# Altium footprint library PCB_s01.PcbLib: 21 footprints (part 1 of 2)
Each footprint in its own frame and in the unit in brackets; x right, y up, seen from the top. Pads: shape width x height; smd on the part's side, far side on the other; paste and mask are expansions set on the pad; w line width, h text height; cw(c..) or ccw(c..) is an arc to the next point about the centre after c.
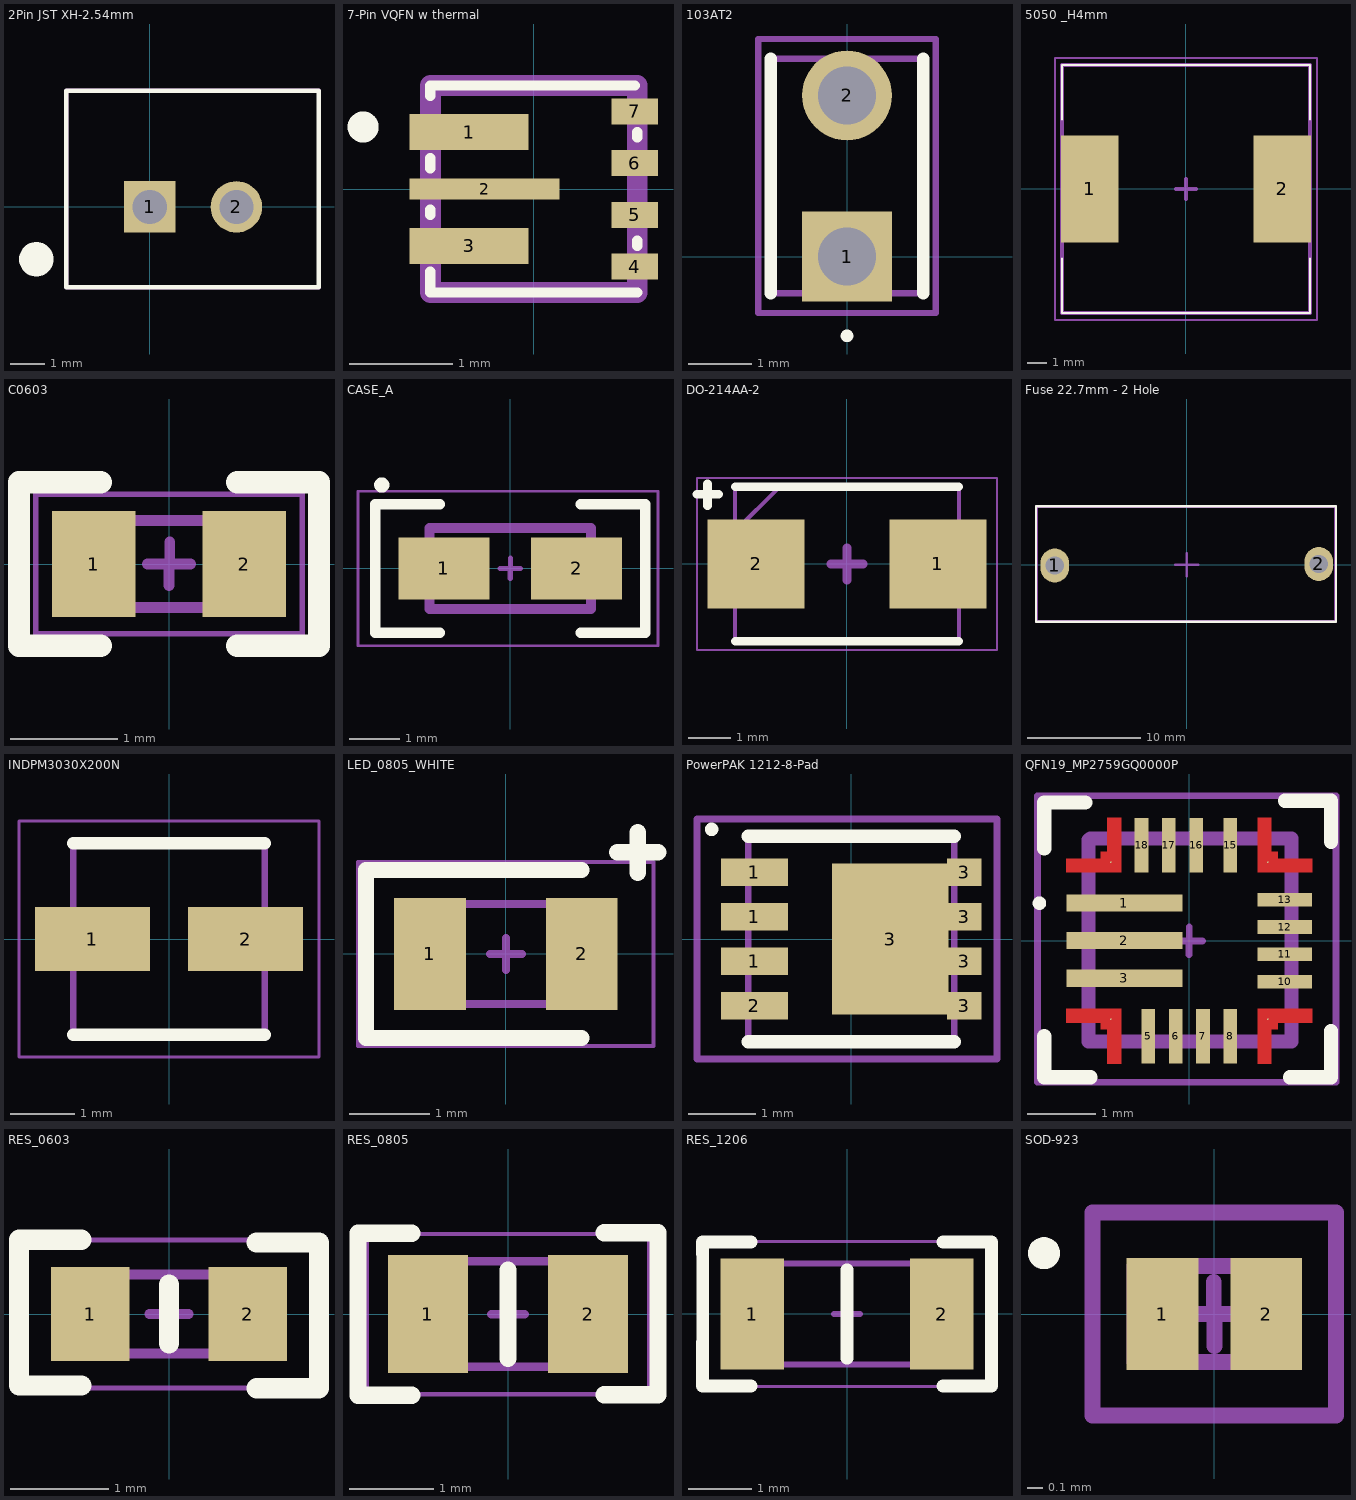
[diagram p0: the footprints below, top view; thin cyan lines are the x and y axes]

## 2Pin JST XH-2.54mm [mm]
pads (3):
  rect 1.508x1.508 hole 1: 1(0,0)
  round 1.508 hole 1: 2(2.54,0)
  round 1.016 on Top Overlay: ""(-3.322,-1.534)
Top Overlay:
  lines w0.127: -2.45,-2.35 4.95,-2.35 4.95,3.4 -2.45,3.4 -2.45,-2.35
Bottom 3D Body:
  lines w0.127: -2.441,-2.351 4.959,-2.351 4.959,3.399 -2.441,3.399 -2.441,-2.351
  text "'.Designator'" at -2.187,-1.589 h1.52
3D body "User Library-B2B-XH-A.STEP": height 7.01, standoff -3.39, extent -2.481,-2.395 4.919,3.355

## 7-Pin VQFN w thermal [mm]
pads (7):
  rect 1.15x0.35 smd: 1(-0.625,0.55) 3(-0.625,-0.55)
  rect 1.45x0.2 smd: 2(-0.475,0)
  rect 0.45x0.25 smd: 4(0.975,-0.75) 5(0.975,-0.25) 6(0.975,0.25) 7(0.975,0.75)
Top Overlay:
  lines w0.1: -1,-1 1,-1 -1,-1 ; -1,-1 -1,-0.8 -1,-1 ; -1,1 -1,0.9 -1,1 ; -1,1 0.975,1 -1,1 ; -1,-0.25 -1,-0.2 -1,-0.25 ; -1,0.2 -1,0.3 -1,0.2 ; 1,-0.55 1,-0.5 1,-0.55 ; 1,0.5 1,0.55 1,0.5
  lines w0.2: -1.7,0.6 ccw(c-1.65,0.6) -1.6,0.6 ; -1.7,0.6 cw(c-1.65,0.6) -1.6,0.6 ; -1.7,0.6 ccw(c-1.65,0.6) -1.6,0.6
Top Courtyard:
  lines w0.2: -1,-1 -1,1 1,1 1,-1 -1,-1
3D body "User Library-RWU0007A.STEP": height 1.01, standoff 0, extent -1.01,-1 1.01,1

## 103AT2 [mm]
pads (2):
  rect 1.416x1.416 hole 0.91: 1(0,0)
  round 1.416 hole 0.91: 2(0,2.54)
Top Overlay:
  lines w0.1: 0,-1.3 ccw(c0,-1.25) 0,-1.2 ccw(c0,-1.25) 0,-1.3
  lines w0.2: -1.2,-0.58 -1.2,3.12 ; 1.2,-0.58 1.2,3.12
Mechanical 13:
  lines w0.1: -1.2,-0.58 -1.2,3.12 1.2,3.12 1.2,-0.58 -1.2,-0.58
  text "'.Designator'" at -1,-0.047 h1
Top Courtyard:
  lines w0.1: -1.397,-0.889 -1.397,3.429 1.397,3.429 1.397,-0.889 -1.397,-0.889
3D body "103AT-2.stp": height 6.44, standoff -10.56, extent -1.2,-0.58 1.2,3.12

## 5050 _H4mm [mm]
pads (2):
  rect 2.9x5.4 smd: 1(-4.85,0) 2(4.85,0)
Top Overlay:
  lines w0.1: -6.25,-3.5 -6.25,-6.25 6.25,-6.25 6.25,-3.5 ; -6.25,3.5 -6.25,6.25 6.25,6.25 6.25,3.5
Mechanical 13:
  lines w0.2: -6.25,-6.25 6.25,-6.25 6.25,6.25 -6.25,6.25 -6.25,-6.25
  text ".Designator" at -6.05,-5.717 h1
Top Courtyard:
  lines w0.1: -6.604,-6.604 6.604,-6.604 6.604,6.604 -6.604,6.604 -6.604,-6.604
  lines w0.2: -0.5,-0.001 0,-0.001 ; -0.005,0 0.495,0 ; 0,-0.501 0,-0.001 ; 0,0.499 0,-0.001
3D body "SRR1240-100M.stp": height 4, standoff 0, extent -6.25,-6.25 6.25,6.25

## C0603 [mm]
pads (2):
  rect 0.78x0.99 smd: 1(-0.7,0) 2(0.7,0)
Top Overlay:
  lines w0.207: -0.635,-0.762 -1.397,-0.762 -1.397,0.762 -0.635,0.762 ; 0.635,-0.762 1.397,-0.762 1.397,0.762 0.635,0.762
Mechanical 13:
  lines w0.1: -0.8,-0.405 -0.8,0.405 0.8,0.405 0.8,-0.405 -0.8,-0.405
  text ".Designator" at -0.7,-0.138 h0.5
Top Courtyard:
  lines w0.05: -1.24,-0.65 -1.24,0.65 1.24,0.65 1.24,-0.65 -1.24,-0.65
  lines w0.1: -0.2,0 0,0 ; 0,-0.2 0,0 ; 0.006,0.006 0.006,0.206 ; 0.2,0 0,0
3D body "0603YC225MAT2A.stp": height 0.76, standoff 0, extent -0.76,-0.508 0.76,0.402

## CASE_A [mm]
pads (2):
  rect 1.8x1.23 smd: 1(-1.31,0) 2(1.31,0)
Top Overlay:
  circle w0.2: c-2.54,1.651 r0.05
  lines w0.207: -1.397,-1.27 -2.667,-1.27 -2.667,1.27 -1.397,1.27 ; 1.397,-1.27 2.667,-1.27 2.667,1.27 1.397,1.27
Mechanical 13:
  lines w0.2: -1.6,-0.8 -1.6,0.8 1.6,0.8 1.6,-0.8 -1.6,-0.8
  text ".Designator" at -1.4,-0.267 h1
Top Courtyard:
  lines w0.05: -3.01,-1.524 -3.01,1.524 2.921,1.524 2.921,-1.524 -3.01,-1.524
  lines w0.1: -0.2,0 0,0 ; 0,-0.2 0,0 ; 0.006,0.006 0.006,0.206 ; 0.2,0 0,0
3D body "T495A225K010ATE1K8.stp": height 1.81, standoff 0, extent -1.7,-0.889 1.7,0.911

## DO-214AA-2 [mm]
pads (2):
  rect 2.3x2.1 smd: 1(2.15,0) 2(-2.15,0)
Top Overlay:
  lines w0.2: -2.65,-1.825 2.65,-1.825 ; -2.65,1.825 2.65,1.825
  lines w0.207: -3.548,1.651 -3.04,1.651 ; -3.302,1.387 -3.302,1.895
Mechanical 13:
  lines w0.1: -2.65,0.775 -1.6,1.825 ; -2.65,-1.825 2.65,-1.825 2.65,1.825 -2.65,1.825 -2.65,-1.825
  text ".Designator" at -2.34,-1.245 h1
Top Courtyard:
  lines w0.05: -3.55,-2.032 3.55,-2.032 3.55,2.032 -3.55,2.032 -3.55,-2.032
  lines w0.207: -0.381,0 0.381,0 ; 0,-0.381 0,0.381
3D body "CDBB240-HF.stp": height 3.2, standoff 0, extent -2.65,-1.825 2.65,1.825

## Fuse 22.7mm - 2 Hole [mm]
pads (2):
  oval 2.5x3 hole 1.6: 1(-11.62,-0.064) 2(11.62,0.064)
Top Overlay:
  lines w0.2: -13.271,-5.016 -13.271,5.143 13.144,5.143 13.144,-5.016 -13.271,-5.016
Mechanical 13:
  lines w0.2: -13.271,-5.016 -13.271,5.143 13.144,5.143 13.144,-5.016 -13.271,-5.016
  text "'.Designator'" at -13.018,-4.255 h1.52
Top Courtyard:
  lines w0.207: -1,0 0,0 ; 0,-1 0,0 ; 0,1 0,0 ; 1,0 0,0 ; -13.208,-4.953 13.081,-4.953 13.081,5.08 -13.208,5.08 -13.208,-4.953
3D body "696103201002.stp": height 11.5, standoff -4.1, extent -12.113,-4.763 11.986,4.837

## INDPM3030X200N [mm]
pads (2):
  rect 1.8x1 smd: 1(-1.2,0) 2(1.2,0)
Top Overlay:
  lines w0.2: -1.5,-1.5 1.5,-1.5 ; -1.5,1.5 1.5,1.5
Top Courtyard:
  lines w0.05: -2.35,-1.85 2.35,-1.85 2.35,1.85 -2.35,1.85 -2.35,-1.85
  lines w0.1: -1.5,-1.5 1.5,-1.5 1.5,1.5 -1.5,1.5 -1.5,-1.5
3D body "User Library-IHLP1212-1.step": height 2.01, standoff -0.03, extent -1.829,-1.473 1.829,1.524

## LED_0805_WHITE [mm]
pads (2):
  rect 0.9x1.4 smd: 1(-0.95,0) 2(0.95,0)
Top Overlay:
  lines w0.2: 0.95,-1.05 -1.75,-1.05 -1.75,1.05 0.95,1.05
  lines w0.207: 1.397,1.27 1.905,1.27 ; 1.651,1.016 1.651,1.524
Mechanical 13:
  lines w0.1: -1,0.208 -0.583,0.625 ; -1,-0.625 1,-0.625 1,0.625 -1,0.625 -1,-0.625
  text ".Designator" at -0.85,-0.242 h0.7
Top Courtyard:
  lines w0.05: -1.85,-1.15 1.85,-1.15 1.85,1.15 -1.85,1.15 -1.85,-1.15
  lines w0.1: -0.2,0 0,0 ; 0,-0.2 0,0 ; 0,0.2 0,0 ; 0.2,0 0,0
3D body "User Library-LED SMD0805.STEP": height 0.85, standoff 0.01, extent -0.998,-0.457 1.065,0.45

## PowerPAK 1212-8-Pad [mm]
pads (9):
  rect 0.99x0.405 smd: 1(-1.435,-0.33) 1(-1.435,0.33) 1(-1.435,0.99) 2(-1.435,-0.99)
  rect 1.725x2.235 smd: 3(0.577,-0.001)
  rect 0.51x0.405 smd: 3(1.675,-0.99) 3(1.675,-0.33) 3(1.675,0.33) 3(1.675,0.99)
Top Overlay:
  lines w0.1: -2.119,1.625 cw(c-2.069,1.625) -2.019,1.625 cw(c-2.069,1.625) -2.119,1.625
  lines w0.2: -1.525,-1.525 1.525,-1.525 ; -1.525,1.525 1.525,1.525
Mechanical 13:
  lines w0.1: -1.525,-1.525 -1.525,1.525 1.525,1.525 1.525,-1.525 -1.525,-1.525
Top Courtyard:
  lines w0.1: -2.286,-1.778 -2.286,1.778 2.159,1.778 2.159,-1.778 -2.286,-1.778
3D body "SISA35DN-T1-GE3.stp": height 1.27, standoff -0.02, extent -1.65,-1.65 1.65,1.65

## QFN19_MP2759GQ0000P [mm]
pads (19):
  rect 1.7x0.25 smd: 1(-0.95,0.55) 2(-0.95,0) 3(-0.95,-0.55)
  round 0.025 smd: 4(-1.15,-1.15) 9(1.15,-1.15) 14(1.15,1.15) 19(-1.15,1.15)
  rect 0.2x0.8 smd: 5(-0.6,-1.4) 6(-0.2,-1.4) 7(0.2,-1.4) 8(0.6,-1.4) 15(0.6,1.4) 16(0.1,1.4) 17(-0.3,1.4) 18(-0.7,1.4)
  rect 0.8x0.2 smd: 10(1.4,-0.6) 11(1.4,-0.2) 12(1.4,0.2) 13(1.4,0.6)
Top Layer:
  region: 1.8,1 1.8,1.2 1.3,1.2 1.3,1.3 1.2,1.3 1.2,1.8 1,1.8 1,1
  region: -1,1.8 -1.2,1.8 -1.2,1.301 -1.2,1.3 -1.3,1.3 -1.3,1.2 -1.8,1.2 -1.8,1 -1,1
  region: -1.8,-1 -1.8,-1.2 -1.3,-1.2 -1.3,-1.3 -1.2,-1.3 -1.2,-1.8 -1,-1.8 -1,-1
  region: 1,-1.8 1.2,-1.8 1.2,-1.301 1.2,-1.3 1.3,-1.3 1.3,-1.2 1.8,-1.2 1.8,-1 1,-1
Top Overlay:
  lines w0.1: -2.246,0.55 ccw(c-2.196,0.55) -2.146,0.55 ccw(c-2.196,0.55) -2.246,0.55
  lines w0.207: -2.125,-1.4 -2.125,-2 -1.45,-2 ; -2.125,1.35 -2.125,2.025 -1.525,2.025 ; 1.4,2.05 2.075,2.05 2.075,1.45 ; 1.475,-2 2.075,-2 2.075,-1.325
Top 3D Body:
  lines w0.207: -1.475,-1.475 1.5,-1.475 1.5,1.5 -1.45,1.5 -1.475,1.475 -1.475,-1.475
Mechanical 13:
  lines w0.1: -1.5,-1.5 -1.5,1.5 1.5,1.5 1.5,-1.5 -1.5,-1.5
  text ".Designator" at -1.331,-0.95 h1
Top Courtyard:
  lines w0.1: -0.206,-0.006 -0.006,-0.006 ; -0.006,-0.206 -0.006,-0.006 ; 0,0 0,0.2 ; 0.194,-0.006 -0.006,-0.006 ; -2.225,-2.075 -2.225,2.125 2.15,2.125 2.15,-2.075 -2.225,-2.075
3D body "MP2759GQ-0000-P.stp": height 0.85, standoff -0.05, extent -1.505,-1.505 1.505,1.505

## RES_0603 [mm]
pads (2):
  rect 0.8x0.95 smd: 1(-0.8,0) 2(0.8,0)
Top Overlay:
  lines w0.2: 0,-0.3 0,0.3
  lines w0.207: -0.889,-0.727 -1.524,-0.727 -1.524,0.753 -0.889,0.753 ; 0.889,-0.753 1.524,-0.753 1.524,0.727 0.889,0.727
Mechanical 13:
  lines w0.1: -0.8,-0.4 -0.8,0.4 0.8,0.4 0.8,-0.4 -0.8,-0.4
  text ".Designator" at -0.7,-0.133 h0.5
Top Courtyard:
  lines w0.05: -1.45,-0.75 -1.45,0.75 1.45,0.75 1.45,-0.75 -1.45,-0.75
  lines w0.1: -0.2,0 0,0 ; 0,-0.2 0,0 ; 0,0.2 0,0 ; 0.2,0 0,0
3D body "RC0603BR-0710KL.stp": height 0.46, standoff 0, extent -0.8,-0.4 0.8,0.4

## RES_0805 [mm]
pads (2):
  rect 0.95x1.4 smd: 1(-0.95,0) 2(0.95,0)
Top Overlay:
  lines w0.2: 0,-0.525 0,0.525
  lines w0.207: -1.143,-0.961 -1.778,-0.961 -1.778,0.961 -1.143,0.961 ; 1.143,-0.957 1.778,-0.957 1.778,0.964 1.143,0.964
Mechanical 13:
  lines w0.1: -1,-0.625 1,-0.625 1,0.625 -1,0.625 -1,-0.625
  text ".Designator" at -0.85,-0.242 h0.7
Top Courtyard:
  lines w0.05: -1.675,-0.946 -1.675,0.954 ; -1.675,-0.95 1.675,-0.95 1.675,0.95 -1.675,0.95 -1.675,-0.95
  lines w0.1: -0.2,0 0,0 ; 0,-0.2 0,0 ; 0,0.2 0,0 ; 0.2,0 0,0
3D body "User Library-Resistor_0805.STEP": height 0.51, standoff 0.01, extent -0.984,-0.625 1.016,0.625

## RES_1206 [mm]
pads (2):
  rect 1x1.75 smd: 1(-1.5,0) 2(1.5,0)
Top Overlay:
  lines w0.2: -2.286,-0.446 -2.286,0.954 ; 0,-0.7 0,0.7
  lines w0.207: -2.286,-0.446 -2.286,-1.143 -1.524,-1.143 ; -2.286,0.954 -2.286,1.143 -1.524,1.143 ; 1.524,-1.143 2.286,-1.143 2.286,1.143 1.524,1.143
Mechanical 13:
  lines w0.1: -1.55,-0.8 1.55,-0.8 1.55,0.8 -1.55,0.8 -1.55,-0.8
  text ".Designator" at -1.35,-0.267 h1
Top Courtyard:
  lines w0.05: -2.25,-1.15 2.25,-1.15 2.25,1.15 -2.25,1.15 -2.25,-1.15
  lines w0.1: -0.2,0 0,0 ; 0,-0.2 0,0 ; 0,0.2 0,0 ; 0.2,0 0,0
3D body "RC1206FR-10750RL.stp": height 0.65, standoff 0, extent -1.55,-0.8 1.55,0.8

## SOD-923 [mm]
pads (2):
  rect 0.45x0.7 smd: 1(-0.325,0) 2(0.325,0)
Top Overlay:
  lines w0.1: -1.116,0.381 ccw(c-1.066,0.381) -1.016,0.381 ccw(c-1.066,0.381) -1.116,0.381
Mechanical 13:
  lines w0.1: -0.5,-0.3 0.5,-0.3 0.5,0.3 -0.5,0.3 -0.5,-0.3
  text "'.Designator'" at -0.45,-0.15 h0.3
Top Courtyard:
  lines w0.1: -0.206,0.001 -0.006,0.001 ; -0.003,0.001 -0.003,0.201 ; 0,-0.2 0,0 0.2,0 ; -0.762,-0.635 0.762,-0.635 0.762,0.635 -0.762,0.635 -0.762,-0.635
3D body "SZNZ8P12VMX2WT5G.stp": height 0.37, standoff 0, extent -0.52,-0.3 0.52,0.3